# Altium schematic symbol library sym-0031.SchLib: 1 symbol
Pins are listed as number, name and electrical type; pins without a type are passive.

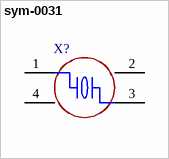
[diagram p0: symbol sym-0031]

## sym-0031
designator X?
SMD 4P OSC Crystal
pins: 1, 2 GND, 3, 4 GND